# EAGLE library part 64900621022 (library Wuerth_Elektronik_eiCan_07_Mini_Power_Connectors)
WR-MPC4-4.20mm Male Dual Row Angled Header with Mounting Flanges for Screw-in Retention,6 pins
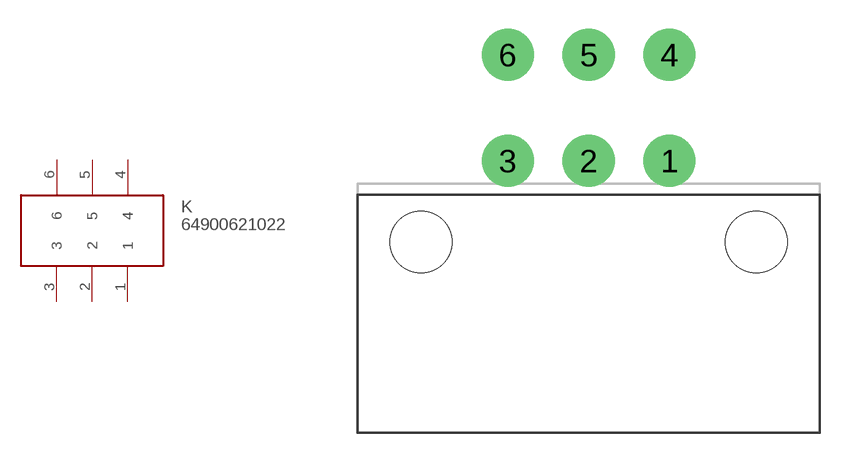
[diagram p20: symbol with the pads of 64900621022; footprint 64900621022]

Designator prefix K

## 64900621022  [64900621022]
1  1
2  2
3  3
4  4
5  5
6  6

## Footprint 64900621022 (pad centres in mm)
WR-MPC4-4.20mm Male Dual Row Angled Header with Mounting Flanges for Screw-in Retention,6 pins
drill 1.8 round: 1 3.385,-2.75; 2 -0.815,-2.75; 3 -5.015,-2.75; 4 3.385,2.75; 5 -0.815,2.75; 6 -5.015,2.75
hole 3.2 at -9.515,-6.95
hole 3.2 at 7.885,-6.95